# Altium footprint library bat-hld-2032.PcbLib: 1 footprints
Each footprint in its own frame and in the unit in brackets; x right, y up, seen from the top. Pads: shape width x height; smd on the part's side, far side on the other; paste and mask are expansions set on the pad; w line width, h text height; cw(c..) or ccw(c..) is an arc to the next point about the centre after c.
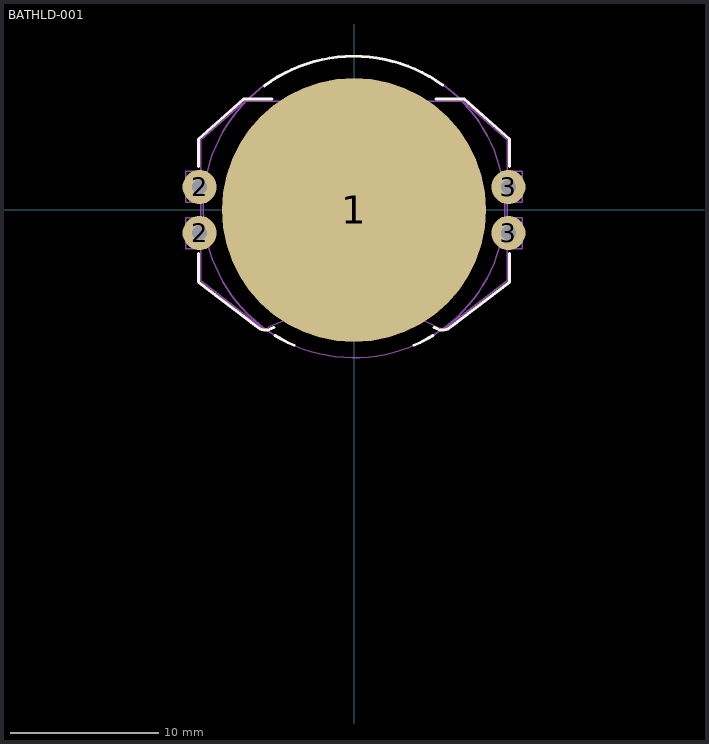
[diagram p0: the footprint, top view; thin cyan lines are the x and y axes]

## BATHLD-001 [mm] "LINX CR2032 BATTERY HOLDER"
height 4.3
pads (5):
  round 17.78 smd: 1(0,0)
  round 2.3 hole 1: 2(-10.4,-1.55) 2(-10.4,1.55) 3(10.4,-1.55) 3(10.4,1.55)
Top Overlay:
  lines w0.2: -10.466,-2.94 -10.466,-4.853 -6.545,-7.854 ; -10.466,2.94 -10.466,4.785 -7.425,7.475 -5.515,7.476 ; -6.545,-7.854 ccw(c-5.97,-7.277) -5.561,-7.982 cw(c0.254,-19.539) -5.394,-7.899 ; -6.041,8.364 cw(c0,0.19) 5.977,8.411 ; -5.313,-8.454 ccw(c0,0.215) -4.054,-9.109 ; 4.054,-9.109 ccw(c0,0.215) 5.313,-8.454 ; 5.394,-7.899 cw(c-0.254,-19.539) 5.561,-7.982 ccw(c5.97,-7.277) 6.545,-7.854 ; 5.515,7.476 7.425,7.475 10.466,4.785 10.466,2.94 ; 6.545,-7.854 10.466,-4.853 ; 10.466,-4.852 10.466,-2.94
Mechanical 1:
  circle w0.1: c0,0.215 r10.168
Mechanical 13:
  lines w0.1: -10.326,-2.625 -11.316,-2.625 -11.316,-0.525 -10.316,-0.525 ; -10.316,0.525 -11.316,0.525 -11.316,2.625 -10.316,2.625 ; -6.038,-8.055 cw(c-0.031,-19.513) 6.013,-8.074 ; -6.038,-8.056 -10.316,-4.775 -10.316,4.725 -7.366,7.325 7.366,7.325 10.316,4.725 10.316,-4.775 6.013,-8.075 ; 10.316,-0.525 11.316,-0.525 11.316,-2.625 10.326,-2.625 ; 10.316,0.525 11.316,0.525 11.316,2.625 10.316,2.625
Mechanical 15:
  lines w0.1: -0.5,0 0.5,0 ; 0,-0.5 0,0.5
3D body: height 4.3, standoff 0, extent -10.317,-8.075 10.317,7.326
3D body: height 4, standoff 0, extent -10.148,-9.872 10.148,10.383